# Altium footprint library SOD80C.PcbLib: 1 footprints
Each footprint in its own frame and in the unit in brackets; x right, y up, seen from the top. Pads: shape width x height; smd on the part's side, far side on the other; paste and mask are expansions set on the pad; w line width, h text height; cw(c..) or ccw(c..) is an arc to the next point about the centre after c.
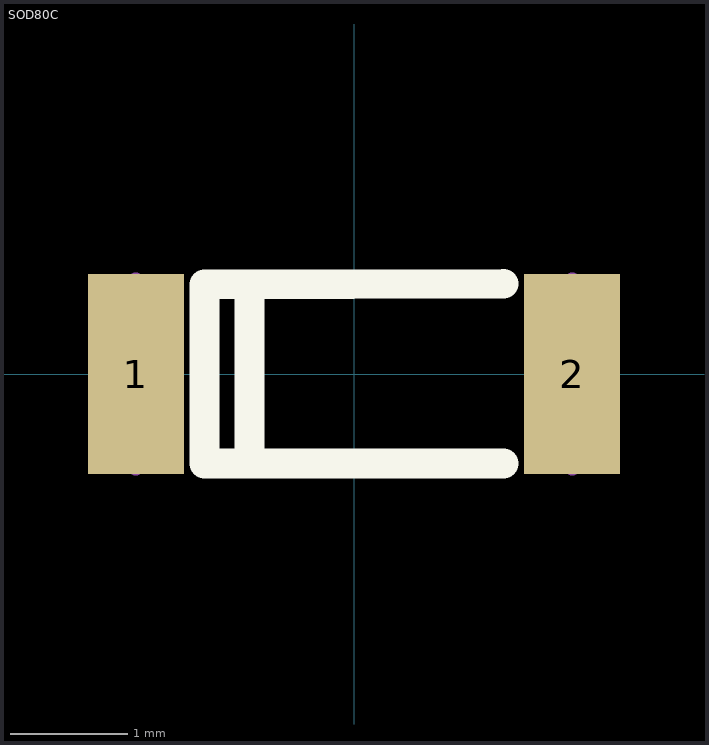
[diagram p0: the footprint, top view; thin cyan lines are the x and y axes]

## SOD80C [mil]
pads (2):
  rect 32x67 smd: 1(-72.93,0) 2(72.93,0)
Top Overlay:
  lines w10: -35,-30 -35,30 ; 50,-30 -50,-30 -50,30 50,30.2
Assembly Top:
  lines w6: -73,-31 -73,31 ; 73,-31 73,31
3D body "step_temp.STEP": height 60.04, standoff 0, extent -68.9,-30.02 68.9,30.02